# EAGLE library part MC9S08QG_DEV (library vieng)
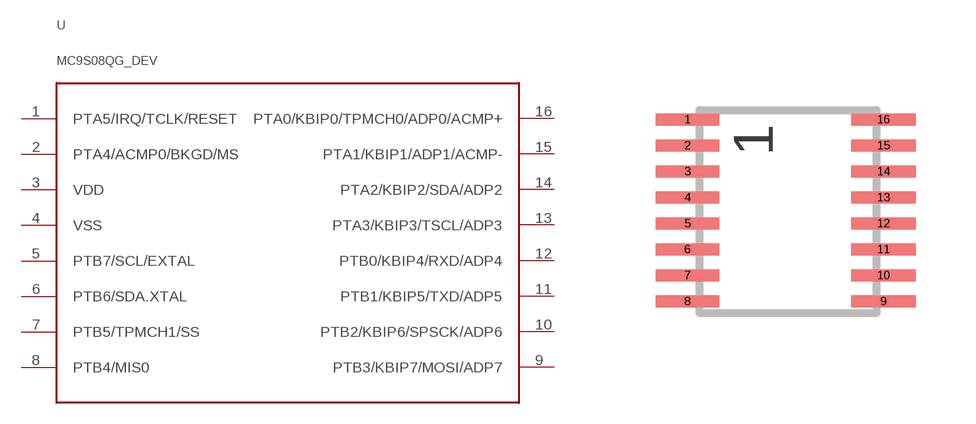
[diagram p4: symbol with the pads of MC9S08QG_PAC; footprint MC9S08QG_PAC]

Designator prefix -

## MC9S08QG_DEVDT  [MC9S08QG_PAC]
1  PTA5/IRQ/TCLK/RESET
2  PTA4/ACMP0/BKGD/MS
3  VDD
4  VSS
5  PTB7/SCL/EXTAL
6  PTB6/SDA.XTAL
7  PTB5/TPMCH1/SS
8  PTB4/MIS0
9  PTB3/KBIP7/MOSI/ADP7
10  PTB2/KBIP6/SPSCK/ADP6
11  PTB1/KBIP5/TXD/ADP5
12  PTB0/KBIP4/RXD/ADP4
13  PTA3/KBIP3/TSCL/ADP3
14  PTA2/KBIP2/SDA/ADP2
15  PTA1/KBIP1/ADP1/ACMP-
16  PTA0/KBIP0/TPMCH0/ADP0/ACMP+

## Footprint MC9S08QG_PAC (pad centres in mm)
smd 1.6 x 0.3: 1 -2.5,2.25; 2 -2.5,1.6; 3 -2.5,0.95; 4 -2.5,0.3; 5 -2.5,-0.35; 6 -2.5,-1; 7 -2.5,-1.65; 8 -2.5,-2.3; 9 2.4,-2.3; 10 2.4,-1.65; 11 2.4,-1; 12 2.4,-0.35; 13 2.4,0.3; 14 2.4,0.95; 15 2.4,1.6; 16 2.4,2.25